# Altium integrated library TI Logic Boundary Scan.IntLib: 169 symbols (part 4 of 5)
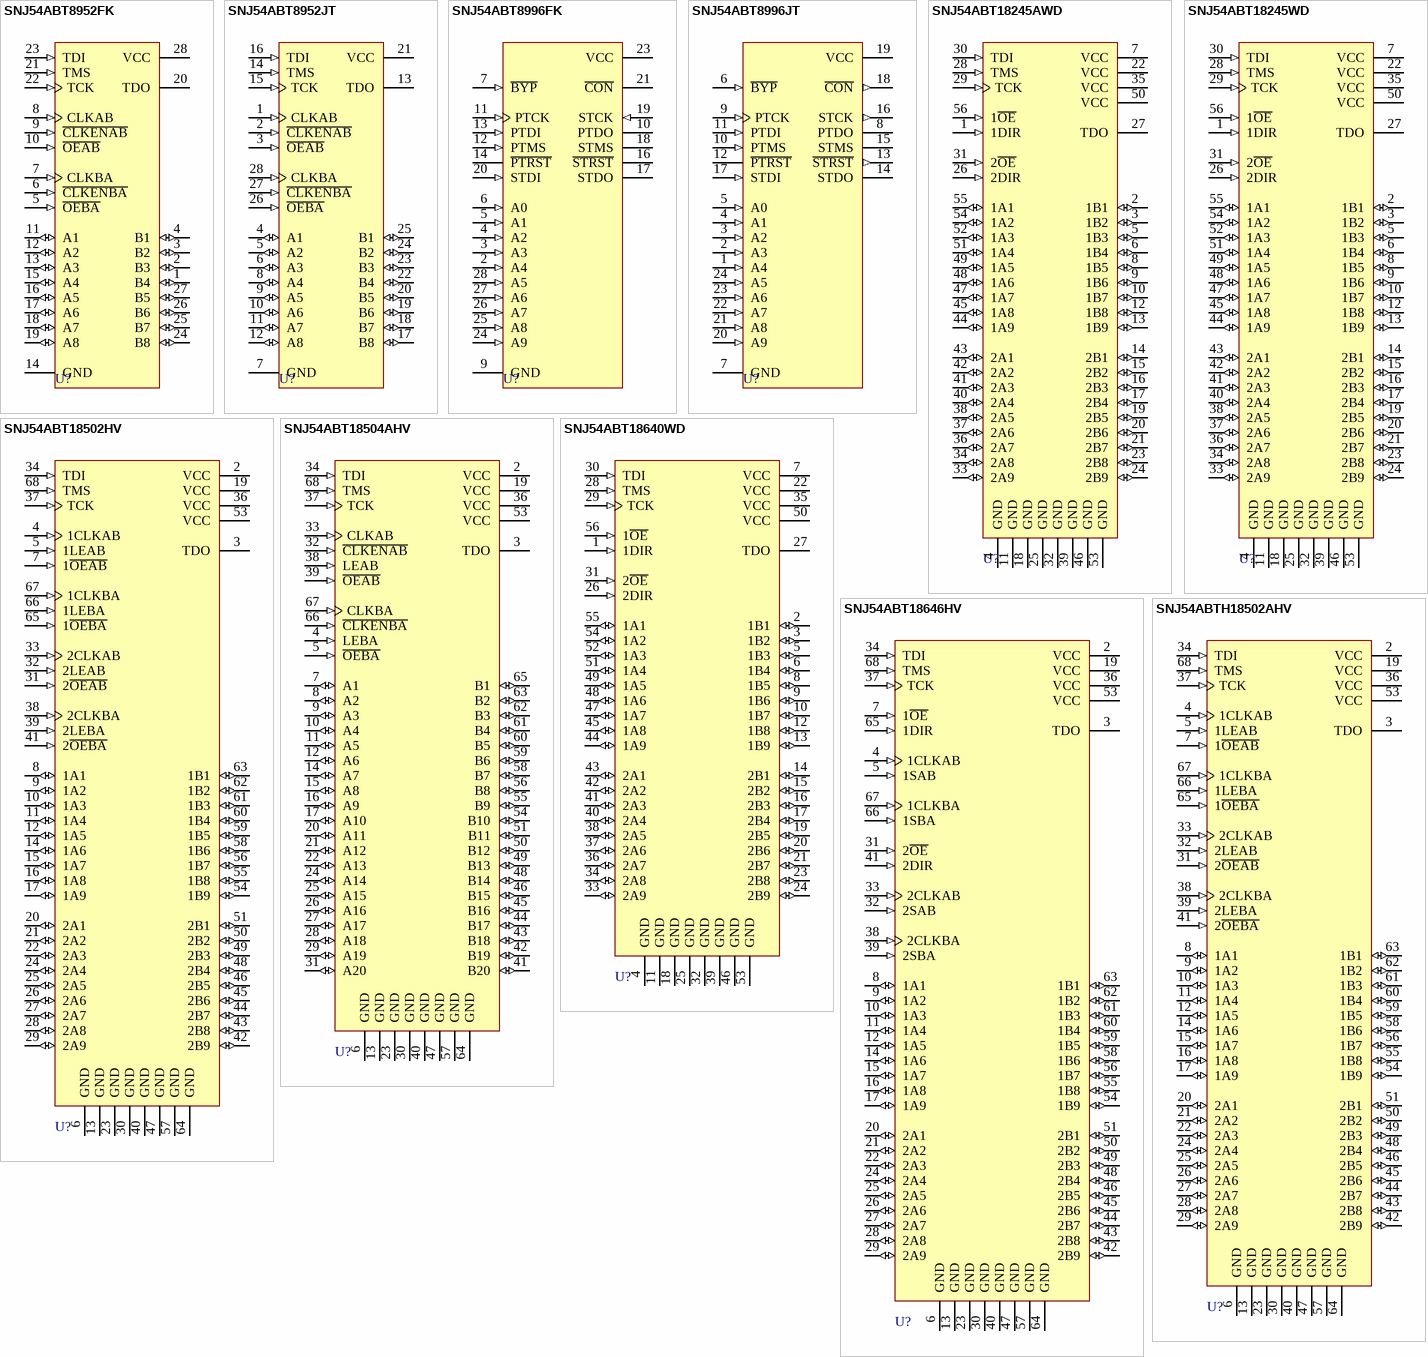
[diagram p15: symbols SNJ54ABT8952FK to SNJ54ABTH18502AHV]

## SNJ54ABT8952JT
designator U?
Scan Test Device with Octal Registered Bus Transceiver; Published: 8-Jun-2000; LatestRevisionDate: 06-Jun-2005; LatestRevisionNote: Stylized 3D Model Added.; DatasheetVersion: Jul-1996; PackageVersion: Jan-1997; PackageReference: JT028C; Publisher: Altium Limited; PackageDescription: DIP; 28 Leads; Row Spacing 7.62 mm; Pitch 2.54 mm; ComponentLink1Description: Manufacturer Link; ComponentLink1URL: http://www.ti.com/
footprint JT028C (DIP; 28 Leads; Row Spacing 7.62 mm; Pitch 2.54 mm)
3D model JT028 (DIP; 28 Leads; Row Spacing 7.62 mm; Pitch 2.54 mm)
signal-integrity model SNJ54ABT8952JT
pins: 1 CLKAB (in), 2 ~{CLKENAB} (in), 3 ~{OEAB} (in), 4 A1 (io), 5 A2 (io), 6 A3 (io), 7 GND (power), 8 A4 (io), 9 A5 (io), 10 A6 (io), 11 A7 (io), 12 A8 (io), 13 TDO (hiz), 14 TMS (in), 15 TCK (in), 16 TDI (in), 17 B8 (io), 18 B7 (io), 19 B6 (io), 20 B5 (io), 21 VCC (power), 22 B4 (io), 23 B3 (io), 24 B2 (io), 25 B1 (io), 26 ~{OEBA} (in), 27 ~{CLKENBA} (in), 28 CLKBA (in)

## SNJ54ABT8996FK
designator U?
10-Bit Addressable Scan Port Multidrop-Addressable IEEE Std 1149.1 (JTAG) Tap Transceiver; Note: Pins 1, 8, 15 and 22 - No connection and not drawn; Published: 8-Jun-2000; LatestRevisionDate: 17-Jul-2002; LatestRevisionNote: Re-released for DXP Platform.; DatasheetVersion: Apr-1999; PackageVersion: 1998; PackageReference: FK028; Publisher: Altium Limited; PackageDescription: Leadless Chip Carrier; 28 Terminals; Body 11.4 x 11.4 mm; ComponentLink1Description: Manufacturer Link; ComponentLink1URL: http://www.ti.com/; ComponentLink2Description: Datasheet; ComponentLink2URL: http://www-s.ti.com/sc/ds/sn74abt8996.pdf
footprint FK028 (Leadless Chip Carrier; 28 Terminals; Body 11.4 x 11.4 mm)
signal-integrity model SNJ54ABT8996FK
pins: 2 A4 (in), 3 A3 (in), 4 A2 (in), 5 A1 (in), 6 A0 (in), 7 ~{BYP} (in), 9 GND (power), 10 PTDO (hiz), 11 PTCK (in), 12 PTMS (in), 13 PTDI (in), 14 ~{PTRST} (hiz), 16 ~{STRST} (hiz), 17 STDO (hiz), 18 STMS (hiz), 19 STCK (in), 20 STDI (in), 21 ~{CON} (hiz), 23 VCC (power), 24 A9 (in), 25 A8 (in), 26 A7 (in), 27 A6 (in), 28 A5 (in)

## SNJ54ABT8996JT
designator U?
10-Bit Addressable Scan Port Multidrop-Addressable IEEE Std 1149.1 (JTAG) Tap Transceiver; Published: 8-Jun-2000; LatestRevisionDate: 06-Jun-2005; LatestRevisionNote: Stylized 3D Model Added.; DatasheetVersion: Apr-1999; PackageVersion: Jan-1997; PackageReference: JT024; Publisher: Altium Limited; PackageDescription: DIP; 24 Leads; Row Spacing 7.62 mm; Pitch 2.54 mm; Code_JEDEC: MS-001-AF; ComponentLink1Description: Manufacturer Link; ComponentLink1URL: http://www.ti.com/; ComponentLink2Description: Datasheet; ComponentLink2URL: http://www-s.ti.com/sc/ds/sn74abt8996.pdf
footprint JT024 (DIP; 24 Leads; Row Spacing 7.62 mm; Pitch 2.54 mm)
3D model JT024 (DIP; 24 Leads; Row Spacing 7.62 mm; Pitch 2.54 mm)
signal-integrity model SNJ54ABT8996JT
pins: 1 A4 (in), 2 A3 (in), 3 A2 (in), 4 A1 (in), 5 A0 (in), 6 ~{BYP} (in), 7 GND (power), 8 PTDO (hiz), 9 PTCK (in), 10 PTMS (in), 11 PTDI (in), 12 ~{PTRST} (hiz), 13 ~{STRST} (out), 14 STDO (hiz), 15 STMS (hiz), 16 STCK (out), 17 STDI (in), 18 ~{CON} (out), 19 VCC (power), 20 A9 (in), 21 A8 (in), 22 A7 (in), 23 A6 (in), 24 A5 (in)

## SNJ54ABT18245AWD
designator U?
Scan Test Device with 18-Bit Bus Transceiver; Published: 8-Jun-2000; LatestRevisionDate: 06-Jun-2005; LatestRevisionNote: Stylized 3D Model Added.; DatasheetVersion: Feb-1999; PackageVersion: Jan-1998; PackageReference: WD056; Publisher: Altium Limited; PackageDescription: DFP; 56 Leads; Body 18.8 x 9.9 mm (LxW max); Pitch 0.635 mm; Code_JEDEC: MO-146-AB; ComponentLink1Description: Manufacturer Link; ComponentLink1URL: http://www.ti.com/; ComponentLink2Description: Datasheet; ComponentLink2URL: http://www-s.ti.com/sc/ds/sn74abt18245a.pdf
footprint WD056 (DFP; 56 Leads; Body 18.8 x 9.9 mm (LxW max); Pitch 0.635 mm)
3D model WD056 (DFP; 56 Leads; Body 18.8 x 9.9 mm (LxW max); Pitch 0.635 mm)
signal-integrity model SNJ54ABT18245AWD
pins: 1 1DIR (in), 2 1B1 (io), 3 1B2 (io), 4 GND (power), 5 1B3 (io), 6 1B4 (io), 7 VCC (power), 8 1B5 (io), 9 1B6 (io), 10 1B7 (io), 11 GND (power), 12 1B8 (io), 13 1B9 (io), 14 2B1 (io), 15 2B2 (io), 16 2B3 (io), 17 2B4 (io), 18 GND (power), 19 2B5 (io), 20 2B6 (io), 21 2B7 (io), 22 VCC (power), 23 2B8 (io), 24 2B9 (io), 25 GND (power), 26 2DIR (in), 27 TDO (hiz), 28 TMS (in), 29 TCK (in), 30 TDI (in), 31 2~{OE} (in), 32 GND (power), 33 2A9 (io), 34 2A8 (io), 35 VCC (power), 36 2A7 (io), 37 2A6 (io), 38 2A5 (io), 39 GND (power), 40 2A4 (io), 41 2A3 (io), 42 2A2 (io), 43 2A1 (io), 44 1A9 (io), 45 1A8 (io), 46 GND (power), 47 1A7 (io), 48 1A6 (io), 49 1A5 (io), 50 VCC (power), 51 1A4 (io), 52 1A3 (io), 53 GND (power), 54 1A2 (io), 55 1A1 (io), 56 1~{OE} (in)

## SNJ54ABT18245WD
designator U?
Scan Test Device with 18-Bit Bus Transceiver; Published: 8-Jun-2000; LatestRevisionDate: 06-Jun-2005; LatestRevisionNote: Stylized 3D Model Added.; DatasheetVersion: Jan-1995; PackageVersion: Jan-1998; PackageReference: WD056; Publisher: Altium Limited; PackageDescription: DFP; 56 Leads; Body 18.8 x 9.9 mm (LxW max); Pitch 0.635 mm; Code_JEDEC: MO-146-AB; ComponentLink1Description: Manufacturer Link; ComponentLink1URL: http://www.ti.com/
footprint WD056 (DFP; 56 Leads; Body 18.8 x 9.9 mm (LxW max); Pitch 0.635 mm)
3D model WD056 (DFP; 56 Leads; Body 18.8 x 9.9 mm (LxW max); Pitch 0.635 mm)
signal-integrity model SNJ54ABT18245WD
pins: 1 1DIR (in), 2 1B1 (io), 3 1B2 (io), 4 GND (power), 5 1B3 (io), 6 1B4 (io), 7 VCC (power), 8 1B5 (io), 9 1B6 (io), 10 1B7 (io), 11 GND (power), 12 1B8 (io), 13 1B9 (io), 14 2B1 (io), 15 2B2 (io), 16 2B3 (io), 17 2B4 (io), 18 GND (power), 19 2B5 (io), 20 2B6 (io), 21 2B7 (io), 22 VCC (power), 23 2B8 (io), 24 2B9 (io), 25 GND (power), 26 2DIR (in), 27 TDO (hiz), 28 TMS (in), 29 TCK (in), 30 TDI (in), 31 2~{OE} (in), 32 GND (power), 33 2A9 (io), 34 2A8 (io), 35 VCC (power), 36 2A7 (io), 37 2A6 (io), 38 2A5 (io), 39 GND (power), 40 2A4 (io), 41 2A3 (io), 42 2A2 (io), 43 2A1 (io), 44 1A9 (io), 45 1A8 (io), 46 GND (power), 47 1A7 (io), 48 1A6 (io), 49 1A5 (io), 50 VCC (power), 51 1A4 (io), 52 1A3 (io), 53 GND (power), 54 1A2 (io), 55 1A1 (io), 56 1~{OE} (in)

## SNJ54ABT18502HV
designator U?
Scan Test Device with 18-Bit Registered Bus Transceiver; Note: Pins 1, 18, 35 and 52 - No Connection and not drawn; Published: 8-Jun-2000; LatestRevisionDate: 13-Apr-2006; LatestRevisionNote: IPC-7351 Footprint Added.; DatasheetVersion: Aug-1994; PackageVersion: Oct-1996; PackageReference: HV068; Publisher: Altium Limited; PackageDescription: 68-Pin Ceramic Quad Flat Pack 0.635 mm Pitch; ComponentLink1Description: Manufacturer Link; ComponentLink1URL: http://www.ti.com/
footprint HV068_N (CQFP, 68-Leads, Body 12.5x12.5mm; Pitch 0.635mm, Gullwing Leadform, IPC Medium Density)
footprint HV068_L (CQFP, 68-Leads, Body 12.5x12.5mm; Pitch 0.635mm, Gullwing Leadform, IPC High Density)
footprint HV068_M (CQFP, 68-Leads, Body 12.5x12.5mm; Pitch 0.635mm, Gullwing Leadform, IPC Low Density)
3D model SNJ54ABT18502-HV068 (68-Pin Ceramic Quad Flat Pack 0.635 mm Pitch)
signal-integrity model SNJ54ABT18502HV
pins: 2 VCC (power), 3 TDO (hiz), 4 1CLKAB (in), 5 1LEAB (in), 6 GND (power), 7 1~{OEAB} (in), 8 1A1 (io), 9 1A2 (io), 10 1A3 (io), 11 1A4 (io), 12 1A5 (io), 13 GND (power), 14 1A6 (io), 15 1A7 (io), 16 1A8 (io), 17 1A9 (io), 19 VCC (power), 20 2A1 (io), 21 2A2 (io), 22 2A3 (io), 23 GND (power), 24 2A4 (io), 25 2A5 (io), 26 2A6 (io), 27 2A7 (io), 28 2A8 (io), 29 2A9 (io), 30 GND (power), 31 2~{OEAB} (in), 32 2LEAB (in), 33 2CLKAB (in), 34 TDI (in), 36 VCC (power), 37 TCK (in), 38 2CLKBA (in), 39 2LEBA (in), 40 GND (power), 41 2~{OEBA} (in), 42 2B9 (io), 43 2B8 (io), 44 2B7 (io), 45 2B6 (io), 46 2B5 (io), 47 GND (power), 48 2B4 (io), 49 2B3 (io), 50 2B2 (io), 51 2B1 (io), 53 VCC (power), 54 1B9 (io), 55 1B8 (io), 56 1B7 (io), 57 GND (power), 58 1B6 (io), 59 1B5 (io), 60 1B4 (io), 61 1B3 (io), 62 1B2 (io), 63 1B1 (io), 64 GND (power), 65 1~{OEBA} (in), 66 1LEBA (in), 67 1CLKBA (in), 68 TMS (in)

## SNJ54ABT18504AHV
designator U?
Scan Test Device with 20-Bit Universal Bus Transceiver; Note: Pins 1, 18, 35 and 52 - No Connection and not drawn; Published: 8-Jun-2000; LatestRevisionDate: 13-Apr-2006; LatestRevisionNote: IPC-7351 Footprint Added.; DatasheetVersion: Aug-1993; PackageVersion: Oct-1996; PackageReference: HV068C; Publisher: Altium Limited; PackageDescription: 68-Pin Ceramic Quad Flat Pack 0.635 mm Pitch; ComponentLink1Description: Manufacturer Link; ComponentLink1URL: http://www.ti.com/
footprint HV068C_N (CQFP, 68-Leads, Body 12.5x12.5mm; Pitch 0.635mm, Gullwing Leadform, IPC Medium Density)
footprint HV068C_L (CQFP, 68-Leads, Body 12.5x12.5mm; Pitch 0.635mm, Gullwing Leadform, IPC High Density)
footprint HV068C_M (CQFP, 68-Leads, Body 12.5x12.5mm; Pitch 0.635mm, Gullwing Leadform, IPC Low Density)
3D model SNJ54ABT18504A-HV068 (68-Pin Ceramic Quad Flat Pack 0.635 mm Pitch)
signal-integrity model SNJ54ABT18504AHV
pins: 2 VCC (power), 3 TDO (hiz), 4 LEBA (in), 5 ~{OEBA} (in), 6 GND (power), 7 A1 (io), 8 A2 (io), 9 A3 (io), 10 A4 (io), 11 A5 (io), 12 A6 (io), 13 GND (power), 14 A7 (io), 15 A8 (io), 16 A9 (io), 17 A10 (io), 19 VCC (power), 20 A11 (io), 21 A12 (io), 22 A13 (io), 23 GND (power), 24 A14 (io), 25 A15 (io), 26 A16 (io), 27 A17 (io), 28 A18 (io), 29 A19 (io), 30 GND (power), 31 A20 (io), 32 ~{CLKENAB} (in), 33 CLKAB (in), 34 TDI (in), 36 VCC (power), 37 TCK (in), 38 LEAB (in), 39 ~{OEAB} (in), 40 GND (power), 41 B20 (io), 42 B19 (io), 43 B18 (io), 44 B17 (io), 45 B16 (io), 46 B15 (io), 47 GND (power), 48 B14 (io), 49 B13 (io), 50 B12 (io), 51 B11 (io), 53 VCC (power), 54 B10 (io), 55 B9 (io), 56 B8 (io), 57 GND (power), 58 B7 (io), 59 B6 (io), 60 B5 (io), 61 B4 (io), 62 B3 (io), 63 B2 (io), 64 GND (power), 65 B1 (io), 66 ~{CLKENBA} (in), 67 CLKBA (in), 68 TMS (in)

## SNJ54ABT18640WD
designator U?
Scan Test Device with 18-Bit Inverting Bus Transceiver; Published: 8-Jun-2000; LatestRevisionDate: 06-Jun-2005; LatestRevisionNote: Stylized 3D Model Added.; DatasheetVersion: Jul-1996; PackageVersion: Jan-1998; PackageReference: WD056; Publisher: Altium Limited; PackageDescription: DFP; 56 Leads; Body 18.8 x 9.9 mm (LxW max); Pitch 0.635 mm; Code_JEDEC: MO-146-AB; ComponentLink1Description: Manufacturer Link; ComponentLink1URL: http://www.ti.com/
footprint WD056 (DFP; 56 Leads; Body 18.8 x 9.9 mm (LxW max); Pitch 0.635 mm)
3D model WD056 (DFP; 56 Leads; Body 18.8 x 9.9 mm (LxW max); Pitch 0.635 mm)
signal-integrity model SNJ54ABT18640WD
pins: 1 1DIR (in), 2 1B1 (io), 3 1B2 (io), 4 GND (power), 5 1B3 (io), 6 1B4 (io), 7 VCC (power), 8 1B5 (io), 9 1B6 (io), 10 1B7 (io), 11 GND (power), 12 1B8 (io), 13 1B9 (io), 14 2B1 (io), 15 2B2 (io), 16 2B3 (io), 17 2B4 (io), 18 GND (power), 19 2B5 (io), 20 2B6 (io), 21 2B7 (io), 22 VCC (power), 23 2B8 (io), 24 2B9 (io), 25 GND (power), 26 2DIR (in), 27 TDO (hiz), 28 TMS (in), 29 TCK (in), 30 TDI (in), 31 2~{OE} (in), 32 GND (power), 33 2A9 (io), 34 2A8 (io), 35 VCC (power), 36 2A7 (io), 37 2A6 (io), 38 2A5 (io), 39 GND (power), 40 2A4 (io), 41 2A3 (io), 42 2A2 (io), 43 2A1 (io), 44 1A9 (io), 45 1A8 (io), 46 GND (power), 47 1A7 (io), 48 1A6 (io), 49 1A5 (io), 50 VCC (power), 51 1A4 (io), 52 1A3 (io), 53 GND (power), 54 1A2 (io), 55 1A1 (io), 56 1~{OE} (in)

## SNJ54ABT18646HV
designator U?
Scan Test Device with 18-Bit Transceivers and Registers; Note: Pins 1, 18, 35 and 52 - No Connection and not drawn; Published: 8-Jun-2000; LatestRevisionDate: 13-Apr-2006; LatestRevisionNote: IPC-7351 Footprint Added.; DatasheetVersion: Aug-1994; PackageVersion: Oct-1996; PackageReference: HV068; Publisher: Altium Limited; PackageDescription: 68-Pin Ceramic Quad Flat Pack 0.635 mm Pitch; ComponentLink1Description: Manufacturer Link; ComponentLink1URL: http://www.ti.com/
footprint HV068_N (CQFP, 68-Leads, Body 12.5x12.5mm; Pitch 0.635mm, Gullwing Leadform, IPC Medium Density)
footprint HV068_L (CQFP, 68-Leads, Body 12.5x12.5mm; Pitch 0.635mm, Gullwing Leadform, IPC High Density)
footprint HV068_M (CQFP, 68-Leads, Body 12.5x12.5mm; Pitch 0.635mm, Gullwing Leadform, IPC Low Density)
3D model SNJ54ABT18646-HV068 (68-Pin Ceramic Quad Flat Pack 0.635 mm Pitch)
signal-integrity model SNJ54ABT18646HV
pins: 2 VCC (power), 3 TDO (hiz), 4 1CLKAB (in), 5 1SAB (in), 6 GND (power), 7 1~{OE} (in), 8 1A1 (io), 9 1A2 (io), 10 1A3 (io), 11 1A4 (io), 12 1A5 (io), 13 GND (power), 14 1A6 (io), 15 1A7 (io), 16 1A8 (io), 17 1A9 (io), 19 VCC (power), 20 2A1 (io), 21 2A2 (io), 22 2A3 (io), 23 GND (power), 24 2A4 (io), 25 2A5 (io), 26 2A6 (io), 27 2A7 (io), 28 2A8 (io), 29 2A9 (io), 30 GND (power), 31 2~{OE} (in), 32 2SAB (in), 33 2CLKAB (in), 34 TDI (in), 36 VCC (power), 37 TCK (in), 38 2CLKBA (in), 39 2SBA (in), 40 GND (power), 41 2DIR (in), 42 2B9 (io), 43 2B8 (io), 44 2B7 (io), 45 2B6 (io), 46 2B5 (io), 47 GND (power), 48 2B4 (io), 49 2B3 (io), 50 2B2 (io), 51 2B1 (io), 53 VCC (power), 54 1B9 (io), 55 1B8 (io), 56 1B7 (io), 57 GND (power), 58 1B6 (io), 59 1B5 (io), 60 1B4 (io), 61 1B3 (io), 62 1B2 (io), 63 1B1 (io), 64 GND (power), 65 1DIR (in), 66 1SBA (in), 67 1CLKBA (in), 68 TMS (in)

## SNJ54ABTH18502AHV
designator U?
Scan Test Device with 18-Bit Universal Bus Transceivers; Note: Pin(s) 1,18,35,52 "No Connection" and not drawn.; Published: 8-Jun-2000; LatestRevisionDate: 13-Apr-2006; LatestRevisionNote: IPC-7351 Footprint Added.; DatasheetVersion: Dec-1996; PackageVersion: Oct-1996; PackageReference: HV068; Publisher: Altium Limited; PackageDescription: 68-Pin Ceramic Quad Flat Pack 0.635 mm Pitch; ComponentLink1Description: Manufacturer Link; ComponentLink1URL: http://www.ti.com/; ComponentLink2Description: Datasheet; ComponentLink2URL: http://www-s.ti.com/sc/ds/sn74abth18502a.pdf
footprint HV068_N (CQFP, 68-Leads, Body 12.5x12.5mm; Pitch 0.635mm, Gullwing Leadform, IPC Medium Density)
footprint HV068_L (CQFP, 68-Leads, Body 12.5x12.5mm; Pitch 0.635mm, Gullwing Leadform, IPC High Density)
footprint HV068_M (CQFP, 68-Leads, Body 12.5x12.5mm; Pitch 0.635mm, Gullwing Leadform, IPC Low Density)
3D model SNJ54ABTH18502A-HV068 (68-Pin Ceramic Quad Flat Pack 0.635 mm Pitch)
pins: 2 VCC (power), 3 TDO (hiz), 4 1CLKAB (in), 5 1LEAB (in), 6 GND (power), 7 1~{OEAB} (in), 8 1A1 (io), 9 1A2 (io), 10 1A3 (io), 11 1A4 (io), 12 1A5 (io), 13 GND (power), 14 1A6 (io), 15 1A7 (io), 16 1A8 (io), 17 1A9 (io), 19 VCC (power), 20 2A1 (io), 21 2A2 (io), 22 2A3 (io), 23 GND (power), 24 2A4 (io), 25 2A5 (io), 26 2A6 (io), 27 2A7 (io), 28 2A8 (io), 29 2A9 (io), 30 GND (power), 31 2~{OEAB} (in), 32 2LEAB (in), 33 2CLKAB (in), 34 TDI (in), 36 VCC (power), 37 TCK (in), 38 2CLKBA (in), 39 2LEBA (in), 40 GND (power), 41 2~{OEBA} (in), 42 2B9 (io), 43 2B8 (io), 44 2B7 (io), 45 2B6 (io), 46 2B5 (io), 47 GND (power), 48 2B4 (io), 49 2B3 (io), 50 2B2 (io), 51 2B1 (io), 53 VCC (power), 54 1B9 (io), 55 1B8 (io), 56 1B7 (io), 57 GND (power), 58 1B6 (io), 59 1B5 (io), 60 1B4 (io), 61 1B3 (io), 62 1B2 (io), 63 1B1 (io), 64 GND (power), 65 1~{OEBA} (in), 66 1LEBA (in), 67 1CLKBA (in), 68 TMS (in)

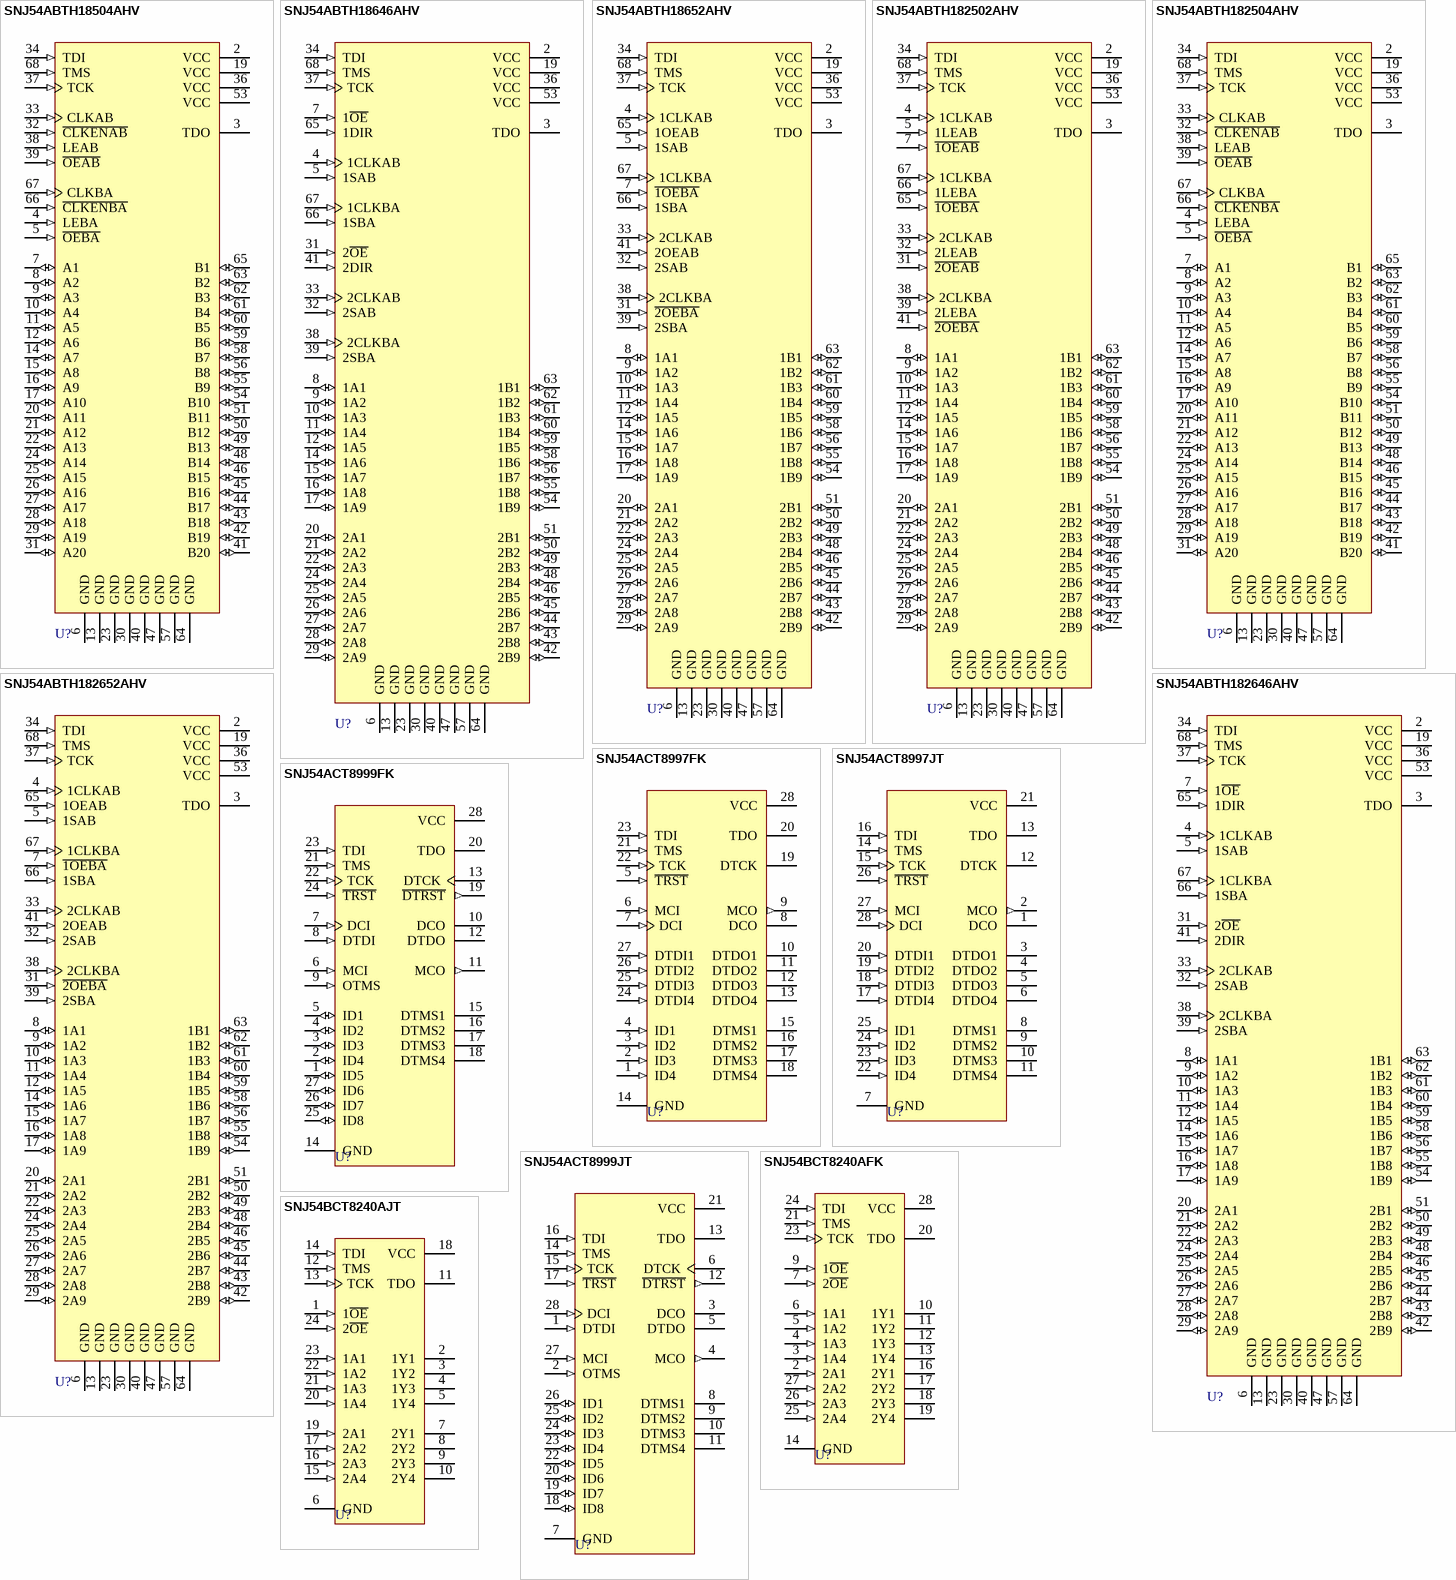
[diagram p8: symbols SNJ54ABTH18504AHV to SNJ54BCT8240AJT]

## SNJ54ABTH18504AHV
designator U?
Scan Test Device with 20-Bit Universal Bus Transceiver; Note: Pins 1, 18, 35 and 52 - No Connection and not drawn; Published: 8-Jun-2000; LatestRevisionDate: 13-Apr-2006; LatestRevisionNote: IPC-7351 Footprint Added.; DatasheetVersion: Aug-1994; PackageVersion: Oct-1996; PackageReference: HV068C; Publisher: Altium Limited; PackageDescription: 68-Pin Ceramic Quad Flat Pack 0.635 mm Pitch; ComponentLink1Description: Manufacturer Link; ComponentLink1URL: http://www.ti.com/
footprint HV068C_N (CQFP, 68-Leads, Body 12.5x12.5mm; Pitch 0.635mm, Gullwing Leadform, IPC Medium Density)
footprint HV068C_L (CQFP, 68-Leads, Body 12.5x12.5mm; Pitch 0.635mm, Gullwing Leadform, IPC High Density)
footprint HV068C_M (CQFP, 68-Leads, Body 12.5x12.5mm; Pitch 0.635mm, Gullwing Leadform, IPC Low Density)
3D model SNJ54ABTH18504A-HV068 (68-Pin Ceramic Quad Flat Pack 0.635 mm Pitch)
pins: 2 VCC (power), 3 TDO (hiz), 4 LEBA (in), 5 ~{OEBA} (in), 6 GND (power), 7 A1 (io), 8 A2 (io), 9 A3 (io), 10 A4 (io), 11 A5 (io), 12 A6 (io), 13 GND (power), 14 A7 (io), 15 A8 (io), 16 A9 (io), 17 A10 (io), 19 VCC (power), 20 A11 (io), 21 A12 (io), 22 A13 (io), 23 GND (power), 24 A14 (io), 25 A15 (io), 26 A16 (io), 27 A17 (io), 28 A18 (io), 29 A19 (io), 30 GND (power), 31 A20 (io), 32 ~{CLKENAB} (in), 33 CLKAB (in), 34 TDI (in), 36 VCC (power), 37 TCK (in), 38 LEAB (in), 39 ~{OEAB} (in), 40 GND (power), 41 B20 (io), 42 B19 (io), 43 B18 (io), 44 B17 (io), 45 B16 (io), 46 B15 (io), 47 GND (power), 48 B14 (io), 49 B13 (io), 50 B12 (io), 51 B11 (io), 53 VCC (power), 54 B10 (io), 55 B9 (io), 56 B8 (io), 57 GND (power), 58 B7 (io), 59 B6 (io), 60 B5 (io), 61 B4 (io), 62 B3 (io), 63 B2 (io), 64 GND (power), 65 B1 (io), 66 ~{CLKENBA} (in), 67 CLKBA (in), 68 TMS (in)

## SNJ54ABTH18646AHV
designator U?
Scan Test Device with 18-Bit Transceivers And Registers; Note: Pins 1, 18, 35 and 52 - No Connection and not drawn; Published: 8-Jun-2000; LatestRevisionDate: 13-Apr-2006; LatestRevisionNote: IPC-7351 Footprint Added.; DatasheetVersion: Jul-1996; PackageVersion: Oct-1996; PackageReference: HV068; Publisher: Altium Limited; PackageDescription: 68-Pin Ceramic Quad Flat Pack 0.635 mm Pitch; ComponentLink1Description: Manufacturer Link; ComponentLink1URL: http://www.ti.com/; ComponentLink2Description: Datasheet; ComponentLink2URL: http://www-s.ti.com/sc/ds/sn74abth18646a.pdf
footprint HV068_N (CQFP, 68-Leads, Body 12.5x12.5mm; Pitch 0.635mm, Gullwing Leadform, IPC Medium Density)
footprint HV068_L (CQFP, 68-Leads, Body 12.5x12.5mm; Pitch 0.635mm, Gullwing Leadform, IPC High Density)
footprint HV068_M (CQFP, 68-Leads, Body 12.5x12.5mm; Pitch 0.635mm, Gullwing Leadform, IPC Low Density)
3D model SNJ54ABTH18646A-HV068 (68-Pin Ceramic Quad Flat Pack 0.635 mm Pitch)
pins: 2 VCC (power), 3 TDO (hiz), 4 1CLKAB (in), 5 1SAB (in), 6 GND (power), 7 1~{OE} (in), 8 1A1 (io), 9 1A2 (io), 10 1A3 (io), 11 1A4 (io), 12 1A5 (io), 13 GND (power), 14 1A6 (io), 15 1A7 (io), 16 1A8 (io), 17 1A9 (io), 19 VCC (power), 20 2A1 (io), 21 2A2 (io), 22 2A3 (io), 23 GND (power), 24 2A4 (io), 25 2A5 (io), 26 2A6 (io), 27 2A7 (io), 28 2A8 (io), 29 2A9 (io), 30 GND (power), 31 2~{OE} (in), 32 2SAB (in), 33 2CLKAB (in), 34 TDI (in), 36 VCC (power), 37 TCK (in), 38 2CLKBA (in), 39 2SBA (in), 40 GND (power), 41 2DIR (in), 42 2B9 (io), 43 2B8 (io), 44 2B7 (io), 45 2B6 (io), 46 2B5 (io), 47 GND (power), 48 2B4 (io), 49 2B3 (io), 50 2B2 (io), 51 2B1 (io), 53 VCC (power), 54 1B9 (io), 55 1B8 (io), 56 1B7 (io), 57 GND (power), 58 1B6 (io), 59 1B5 (io), 60 1B4 (io), 61 1B3 (io), 62 1B2 (io), 63 1B1 (io), 64 GND (power), 65 1DIR (in), 66 1SBA (in), 67 1CLKBA (in), 68 TMS (in)

## SNJ54ABTH18652AHV
designator U?
Scan Test Device with 18-Bit Bus Transceiver and Register; Note: Pins 1, 18, 35 and 52 - No Connection and not drawn; Published: 8-Jun-2000; LatestRevisionDate: 13-Apr-2006; LatestRevisionNote: IPC-7351 Footprint Added.; DatasheetVersion: Jul-1996; PackageVersion: Oct-1996; PackageReference: HV068C; Publisher: Altium Limited; PackageDescription: 68-Pin Ceramic Quad Flat Pack 0.635 mm Pitch; ComponentLink1Description: Manufacturer Link; ComponentLink1URL: http://www.ti.com/
footprint HV068C_N (CQFP, 68-Leads, Body 12.5x12.5mm; Pitch 0.635mm, Gullwing Leadform, IPC Medium Density)
footprint HV068C_L (CQFP, 68-Leads, Body 12.5x12.5mm; Pitch 0.635mm, Gullwing Leadform, IPC High Density)
footprint HV068C_M (CQFP, 68-Leads, Body 12.5x12.5mm; Pitch 0.635mm, Gullwing Leadform, IPC Low Density)
3D model SNJ54ABTH18652A-HV068 (68-Pin Ceramic Quad Flat Pack 0.635 mm Pitch)
pins: 2 VCC (power), 3 TDO (hiz), 4 1CLKAB (in), 5 1SAB (in), 6 GND (power), 7 ~{1OEBA} (in), 8 1A1 (io), 9 1A2 (io), 10 1A3 (io), 11 1A4 (io), 12 1A5 (io), 13 GND (power), 14 1A6 (io), 15 1A7 (io), 16 1A8 (io), 17 1A9 (io), 19 VCC (power), 20 2A1 (io), 21 2A2 (io), 22 2A3 (io), 23 GND (power), 24 2A4 (io), 25 2A5 (io), 26 2A6 (io), 27 2A7 (io), 28 2A8 (io), 29 2A9 (io), 30 GND (power), 31 ~{2OEBA} (in), 32 2SAB (in), 33 2CLKAB (in), 34 TDI (in), 36 VCC (power), 37 TCK (in), 38 2CLKBA (in), 39 2SBA (in), 40 GND (power), 41 2OEAB (in), 42 2B9 (io), 43 2B8 (io), 44 2B7 (io), 45 2B6 (io), 46 2B5 (io), 47 GND (power), 48 2B4 (io), 49 2B3 (io), 50 2B2 (io), 51 2B1 (io), 53 VCC (power), 54 1B9 (io), 55 1B8 (io), 56 1B7 (io), 57 GND (power), 58 1B6 (io), 59 1B5 (io), 60 1B4 (io), 61 1B3 (io), 62 1B2 (io), 63 1B1 (io), 64 GND (power), 65 1OEAB (in), 66 1SBA (in), 67 1CLKBA (in), 68 TMS (in)

## SNJ54ABTH182502AHV
designator U?
Scan Test Device with 18-Bit Universal Bus Transceiver; Note: Pins 1, 18, 35 and 52 - No Connection and not drawn; Published: 8-Jun-2000; LatestRevisionDate: 13-Apr-2006; LatestRevisionNote: IPC-7351 Footprint Added.; DatasheetVersion: Aug-1994; PackageVersion: Oct-1996; PackageReference: HV068C; Publisher: Altium Limited; PackageDescription: 68-Pin Ceramic Quad Flat Pack 0.635 mm Pitch; ComponentLink1Description: Manufacturer Link; ComponentLink1URL: http://www.ti.com/
footprint HV068C_N (CQFP, 68-Leads, Body 12.5x12.5mm; Pitch 0.635mm, Gullwing Leadform, IPC Medium Density)
footprint HV068C_L (CQFP, 68-Leads, Body 12.5x12.5mm; Pitch 0.635mm, Gullwing Leadform, IPC High Density)
footprint HV068C_M (CQFP, 68-Leads, Body 12.5x12.5mm; Pitch 0.635mm, Gullwing Leadform, IPC Low Density)
3D model SNJ54ABTH182502A-HV068 (68-Pin Ceramic Quad Flat Pack 0.635 mm Pitch)
pins: 2 VCC (power), 3 TDO (hiz), 4 1CLKAB (in), 5 1LEAB (in), 6 GND (power), 7 ~{1OEAB} (in), 8 1A1 (io), 9 1A2 (io), 10 1A3 (io), 11 1A4 (io), 12 1A5 (io), 13 GND (power), 14 1A6 (io), 15 1A7 (io), 16 1A8 (io), 17 1A9 (io), 19 VCC (power), 20 2A1 (io), 21 2A2 (io), 22 2A3 (io), 23 GND (power), 24 2A4 (io), 25 2A5 (io), 26 2A6 (io), 27 2A7 (io), 28 2A8 (io), 29 2A9 (io), 30 GND (power), 31 ~{2OEAB} (in), 32 2LEAB (in), 33 2CLKAB (in), 34 TDI (in), 36 VCC (power), 37 TCK (in), 38 2CLKBA (in), 39 2LEBA (in), 40 GND (power), 41 ~{2OEBA} (in), 42 2B9 (io), 43 2B8 (io), 44 2B7 (io), 45 2B6 (io), 46 2B5 (io), 47 GND (power), 48 2B4 (io), 49 2B3 (io), 50 2B2 (io), 51 2B1 (io), 53 VCC (power), 54 1B9 (io), 55 1B8 (io), 56 1B7 (io), 57 GND (power), 58 1B6 (io), 59 1B5 (io), 60 1B4 (io), 61 1B3 (io), 62 1B2 (io), 63 1B1 (io), 64 GND (power), 65 ~{1OEBA} (in), 66 1LEBA (in), 67 1CLKBA (in), 68 TMS (in)

## SNJ54ABTH182504AHV
designator U?
Scan Test Device with 20-Bit Universal Bus Transceiver; Note: Pins 1, 18, 35 and 52 - No Connection and not drawn; Published: 8-Jun-2000; LatestRevisionDate: 13-Apr-2006; LatestRevisionNote: IPC-7351 Footprint Added.; DatasheetVersion: Aug-1994; PackageVersion: Oct-1996; PackageReference: HV068C; Publisher: Altium Limited; PackageDescription: 68-Pin Ceramic Quad Flat Pack 0.635 mm Pitch; ComponentLink1Description: Manufacturer Link; ComponentLink1URL: http://www.ti.com/
footprint HV068C_N (CQFP, 68-Leads, Body 12.5x12.5mm; Pitch 0.635mm, Gullwing Leadform, IPC Medium Density)
footprint HV068C_L (CQFP, 68-Leads, Body 12.5x12.5mm; Pitch 0.635mm, Gullwing Leadform, IPC High Density)
footprint HV068C_M (CQFP, 68-Leads, Body 12.5x12.5mm; Pitch 0.635mm, Gullwing Leadform, IPC Low Density)
3D model SNJ54ABTH182504A-HV068 (68-Pin Ceramic Quad Flat Pack 0.635 mm Pitch)
pins: 2 VCC (power), 3 TDO (hiz), 4 LEBA (in), 5 ~{OEBA} (in), 6 GND (power), 7 A1 (io), 8 A2 (io), 9 A3 (io), 10 A4 (io), 11 A5 (io), 12 A6 (io), 13 GND (power), 14 A7 (io), 15 A8 (io), 16 A9 (io), 17 A10 (io), 19 VCC (power), 20 A11 (io), 21 A12 (io), 22 A13 (io), 23 GND (power), 24 A14 (io), 25 A15 (io), 26 A16 (io), 27 A17 (io), 28 A18 (io), 29 A19 (io), 30 GND (power), 31 A20 (io), 32 ~{CLKENAB} (in), 33 CLKAB (in), 34 TDI (in), 36 VCC (power), 37 TCK (in), 38 LEAB (in), 39 ~{OEAB} (in), 40 GND (power), 41 B20 (io), 42 B19 (io), 43 B18 (io), 44 B17 (io), 45 B16 (io), 46 B15 (io), 47 GND (power), 48 B14 (io), 49 B13 (io), 50 B12 (io), 51 B11 (io), 53 VCC (power), 54 B10 (io), 55 B9 (io), 56 B8 (io), 57 GND (power), 58 B7 (io), 59 B6 (io), 60 B5 (io), 61 B4 (io), 62 B3 (io), 63 B2 (io), 64 GND (power), 65 B1 (io), 66 ~{CLKENBA} (in), 67 CLKBA (in), 68 TMS (in)

## SNJ54ABTH182646AHV
designator U?
Scan Test Device with 18-Bit Transceiver and Register; Note: Pins 1, 18, 35 and 52 - No Connection and not drawn; Published: 8-Jun-2000; LatestRevisionDate: 13-Apr-2006; LatestRevisionNote: IPC-7351 Footprint Added.; DatasheetVersion: Jul-1996; PackageVersion: Oct-1996; PackageReference: HV068C; Publisher: Altium Limited; PackageDescription: 68-Pin Ceramic Quad Flat Pack 0.635 mm Pitch; ComponentLink1Description: Manufacturer Link; ComponentLink1URL: http://www.ti.com/
footprint HV068C_N (CQFP, 68-Leads, Body 12.5x12.5mm; Pitch 0.635mm, Gullwing Leadform, IPC Medium Density)
footprint HV068C_L (CQFP, 68-Leads, Body 12.5x12.5mm; Pitch 0.635mm, Gullwing Leadform, IPC High Density)
footprint HV068C_M (CQFP, 68-Leads, Body 12.5x12.5mm; Pitch 0.635mm, Gullwing Leadform, IPC Low Density)
3D model SNJ54ABTH182646A-HV068 (68-Pin Ceramic Quad Flat Pack 0.635 mm Pitch)
pins: 2 VCC (power), 3 TDO (hiz), 4 1CLKAB (in), 5 1SAB (in), 6 GND (power), 7 1~{OE} (in), 8 1A1 (io), 9 1A2 (io), 10 1A3 (io), 11 1A4 (io), 12 1A5 (io), 13 GND (power), 14 1A6 (io), 15 1A7 (io), 16 1A8 (io), 17 1A9 (io), 19 VCC (power), 20 2A1 (io), 21 2A2 (io), 22 2A3 (io), 23 GND (power), 24 2A4 (io), 25 2A5 (io), 26 2A6 (io), 27 2A7 (io), 28 2A8 (io), 29 2A9 (io), 30 GND (power), 31 2~{OE} (in), 32 2SAB (in), 33 2CLKAB (in), 34 TDI (in), 36 VCC (power), 37 TCK (in), 38 2CLKBA (in), 39 2SBA (in), 40 GND (power), 41 2DIR (in), 42 2B9 (io), 43 2B8 (io), 44 2B7 (io), 45 2B6 (io), 46 2B5 (io), 47 GND (power), 48 2B4 (io), 49 2B3 (io), 50 2B2 (io), 51 2B1 (io), 53 VCC (power), 54 1B9 (io), 55 1B8 (io), 56 1B7 (io), 57 GND (power), 58 1B6 (io), 59 1B5 (io), 60 1B4 (io), 61 1B3 (io), 62 1B2 (io), 63 1B1 (io), 64 GND (power), 65 1DIR (in), 66 1SBA (in), 67 1CLKBA (in), 68 TMS (in)

## SNJ54ABTH182652AHV
designator U?
Scan Test Device with 18-Bit Bus Transceiver and Register; Note: Pins 1, 18, 35 and 52 - No Connection and not drawn; Published: 8-Jun-2000; LatestRevisionDate: 13-Apr-2006; LatestRevisionNote: IPC-7351 Footprint Added.; DatasheetVersion: Jul-1996; PackageVersion: Oct-1996; PackageReference: HV068C; Publisher: Altium Limited; PackageDescription: 68-Pin Ceramic Quad Flat Pack 0.635 mm Pitch; ComponentLink1Description: Manufacturer Link; ComponentLink1URL: http://www.ti.com/
footprint HV068C_N (CQFP, 68-Leads, Body 12.5x12.5mm; Pitch 0.635mm, Gullwing Leadform, IPC Medium Density)
footprint HV068C_L (CQFP, 68-Leads, Body 12.5x12.5mm; Pitch 0.635mm, Gullwing Leadform, IPC High Density)
footprint HV068C_M (CQFP, 68-Leads, Body 12.5x12.5mm; Pitch 0.635mm, Gullwing Leadform, IPC Low Density)
3D model SNJ54ABTH182652A-HV068 (68-Pin Ceramic Quad Flat Pack 0.635 mm Pitch)
pins: 2 VCC (power), 3 TDO (hiz), 4 1CLKAB (in), 5 1SAB (in), 6 GND (power), 7 ~{1OEBA} (in), 8 1A1 (io), 9 1A2 (io), 10 1A3 (io), 11 1A4 (io), 12 1A5 (io), 13 GND (power), 14 1A6 (io), 15 1A7 (io), 16 1A8 (io), 17 1A9 (io), 19 VCC (power), 20 2A1 (io), 21 2A2 (io), 22 2A3 (io), 23 GND (power), 24 2A4 (io), 25 2A5 (io), 26 2A6 (io), 27 2A7 (io), 28 2A8 (io), 29 2A9 (io), 30 GND (power), 31 ~{2OEBA} (in), 32 2SAB (in), 33 2CLKAB (in), 34 TDI (in), 36 VCC (power), 37 TCK (in), 38 2CLKBA (in), 39 2SBA (in), 40 GND (power), 41 2OEAB (in), 42 2B9 (io), 43 2B8 (io), 44 2B7 (io), 45 2B6 (io), 46 2B5 (io), 47 GND (power), 48 2B4 (io), 49 2B3 (io), 50 2B2 (io), 51 2B1 (io), 53 VCC (power), 54 1B9 (io), 55 1B8 (io), 56 1B7 (io), 57 GND (power), 58 1B6 (io), 59 1B5 (io), 60 1B4 (io), 61 1B3 (io), 62 1B2 (io), 63 1B1 (io), 64 GND (power), 65 1OEAB (in), 66 1SBA (in), 67 1CLKBA (in), 68 TMS (in)

## SNJ54ACT8997FK
designator U?
Scan-Path Linker with 4-Bit Identification Bus Scan-Controlled IEEE Std 1149.1 (JTAG) Tap Concatenator; Published: 8-Jun-2000; LatestRevisionDate: 17-Jul-2002; LatestRevisionNote: Re-released for DXP Platform.; DatasheetVersion: Dec-1996; PackageVersion: 1998; PackageReference: FK028; Publisher: Altium Limited; PackageDescription: Leadless Chip Carrier; 28 Terminals; Body 11.4 x 11.4 mm; ComponentLink1Description: Manufacturer Link; ComponentLink1URL: http://www.ti.com/; ComponentLink2Description: Datasheet; ComponentLink2URL: http://www-s.ti.com/sc/ds/sn74act8997.pdf
footprint FK028 (Leadless Chip Carrier; 28 Terminals; Body 11.4 x 11.4 mm)
signal-integrity model SNJ54ACT8997FK
pins: 1 ID4 (in), 2 ID3 (in), 3 ID2 (in), 4 ID1 (in), 5 ~{TRST} (in), 6 MCI (in), 7 DCI (in), 8 DCO (hiz), 9 MCO (out), 10 DTDO1 (hiz), 11 DTDO2 (hiz), 12 DTDO3 (hiz), 13 DTDO4 (hiz), 14 GND (power), 15 DTMS1 (hiz), 16 DTMS2 (hiz), 17 DTMS3 (hiz), 18 DTMS4 (hiz), 19 DTCK (hiz), 20 TDO (hiz), 21 TMS (in), 22 TCK (in), 23 TDI (in), 24 DTDI4 (in), 25 DTDI3 (in), 26 DTDI2 (in), 27 DTDI1 (in), 28 VCC (power)

## SNJ54ACT8997JT
designator U?
Scan-Path Linker with 4-Bit Identification Bus Scan-Controlled IEEE Std 1149.1 (JTAG) Tap Concatenator; Published: 8-Jun-2000; LatestRevisionDate: 06-Jun-2005; LatestRevisionNote: Stylized 3D Model Added.; DatasheetVersion: Dec-1996; PackageVersion: Jan-1997; PackageReference: JT028; Publisher: Altium Limited; PackageDescription: DIP; 28 Leads; Row Spacing 7.62 mm; Pitch 2.54 mm; ComponentLink1Description: Manufacturer Link; ComponentLink1URL: http://www.ti.com/; ComponentLink2Description: Datasheet; ComponentLink2URL: http://www-s.ti.com/sc/ds/sn74act8997.pdf
footprint JT028 (DIP; 28 Leads; Row Spacing 7.62 mm; Pitch 2.54 mm)
3D model JT028 (DIP; 28 Leads; Row Spacing 7.62 mm; Pitch 2.54 mm)
signal-integrity model SNJ54ACT8997JT
pins: 1 DCO (hiz), 2 MCO (out), 3 DTDO1 (hiz), 4 DTDO2 (hiz), 5 DTDO3 (hiz), 6 DTDO4 (hiz), 7 GND (power), 8 DTMS1 (hiz), 9 DTMS2 (hiz), 10 DTMS3 (hiz), 11 DTMS4 (hiz), 12 DTCK (hiz), 13 TDO (hiz), 14 TMS (in), 15 TCK (in), 16 TDI (in), 17 DTDI4 (in), 18 DTDI3 (in), 19 DTDI2 (in), 20 DTDI1 (in), 21 VCC (power), 22 ID4 (in), 23 ID3 (in), 24 ID2 (in), 25 ID1 (in), 26 ~{TRST} (in), 27 MCI (in), 28 DCI (in)

## SNJ54ACT8999FK
designator U?
Scan-Path Selector with 8-Bit Bidirectional Data Bus Scan-Controlled IEEE STD 1149.1 (JTAG) TAP Multiplexer; Published: 8-Jun-2000; LatestRevisionDate: 17-Jul-2002; LatestRevisionNote: Re-released for DXP Platform.; DatasheetVersion: Dec-1996; PackageVersion: 1998; PackageReference: FK028C; Publisher: Altium Limited; PackageDescription: Leadless Chip Carrier; 28 Terminals; Body 11.4 x 11.4 mm; ComponentLink1Description: Manufacturer Link; ComponentLink1URL: http://www.ti.com/
footprint FK028C (Leadless Chip Carrier; 28 Terminals; Body 11.4 x 11.4 mm)
signal-integrity model SNJ54ACT8999FK
pins: 1 ID5 (io), 2 ID4 (io), 3 ID3 (io), 4 ID2 (io), 5 ID1 (io), 6 MCI (in), 7 DCI (in), 8 DTDI (in), 9 OTMS (in), 10 DCO (hiz), 11 MCO (out), 12 DTDO (hiz), 13 DTCK (hiz), 14 GND (power), 15 DTMS1 (hiz), 16 DTMS2 (hiz), 17 DTMS3 (hiz), 18 DTMS4 (hiz), 19 ~{DTRST} (out), 20 TDO (hiz), 21 TMS (in), 22 TCK (in), 23 TDI (in), 24 ~{TRST} (in), 25 ID8 (io), 26 ID7 (io), 27 ID6 (io), 28 VCC (power)

## SNJ54ACT8999JT
designator U?
Scan-Path Selector with 8-Bit Bidirectional Data Bus Scan-Controlled IEEE STD 1149.1 (JTAG) TAP Multiplexer; Published: 8-Jun-2000; LatestRevisionDate: 06-Jun-2005; LatestRevisionNote: Stylized 3D Model Added.; DatasheetVersion: Dec-1996; PackageVersion: Jan-1997; PackageReference: JT028C; Publisher: Altium Limited; PackageDescription: DIP; 28 Leads; Row Spacing 7.62 mm; Pitch 2.54 mm; ComponentLink1Description: Manufacturer Link; ComponentLink1URL: http://www.ti.com/
footprint JT028C (DIP; 28 Leads; Row Spacing 7.62 mm; Pitch 2.54 mm)
3D model JT028 (DIP; 28 Leads; Row Spacing 7.62 mm; Pitch 2.54 mm)
signal-integrity model SNJ54ACT8999JT
pins: 1 DTDI (in), 2 OTMS (in), 3 DCO (hiz), 4 MCO (out), 5 DTDO (hiz), 6 DTCK (hiz), 7 GND (power), 8 DTMS1 (hiz), 9 DTMS2 (hiz), 10 DTMS3 (hiz), 11 DTMS4 (hiz), 12 ~{DTRST} (out), 13 TDO (hiz), 14 TMS (in), 15 TCK (in), 16 TDI (in), 17 ~{TRST} (in), 18 ID8 (io), 19 ID7 (io), 20 ID6 (io), 21 VCC (power), 22 ID5 (io), 23 ID4 (io), 24 ID3 (io), 25 ID2 (io), 26 ID1 (io), 27 MCI (in), 28 DCI (in)

## SNJ54BCT8240AFK
designator U?
Scan Test Device with Octal Inverting Buffers; Note: Pins 1, 8, 15 and 22 - No connection and not drawn; Published: 8-Jun-2000; LatestRevisionDate: 17-Jul-2002; LatestRevisionNote: Re-released for DXP Platform.; DatasheetVersion: Dec-1996; PackageVersion: 1998; PackageReference: FK028; Publisher: Altium Limited; PackageDescription: Leadless Chip Carrier; 28 Terminals; Body 11.4 x 11.4 mm; ComponentLink1Description: Manufacturer Link; ComponentLink1URL: http://www.ti.com/; ComponentLink2Description: Datasheet; ComponentLink2URL: http://www-s.ti.com/sc/ds/sn74bct8240a.pdf
footprint FK028 (Leadless Chip Carrier; 28 Terminals; Body 11.4 x 11.4 mm)
signal-integrity model SNJ54BCT8240AFK
pins: 2 2A1 (in), 3 1A4 (in), 4 1A3 (in), 5 1A2 (in), 6 1A1 (in), 7 2~{OE} (in), 9 1~{OE} (in), 10 1Y1 (hiz), 11 1Y2 (hiz), 12 1Y3 (hiz), 13 1Y4 (hiz), 14 GND (power), 16 2Y1 (hiz), 17 2Y2 (hiz), 18 2Y3 (hiz), 19 2Y4 (hiz), 20 TDO (hiz), 21 TMS (in), 23 TCK (in), 24 TDI (in), 25 2A4 (in), 26 2A3 (in), 27 2A2 (in), 28 VCC (power)

## SNJ54BCT8240AJT
designator U?
Scan Test Device with Octal Inverting Buffers; Published: 8-Jun-2000; LatestRevisionDate: 06-Jun-2005; LatestRevisionNote: Stylized 3D Model Added.; DatasheetVersion: Dec-1996; PackageVersion: Jan-1997; PackageReference: JT024; Publisher: Altium Limited; PackageDescription: DIP; 24 Leads; Row Spacing 7.62 mm; Pitch 2.54 mm; Code_JEDEC: MS-001-AF; ComponentLink1Description: Manufacturer Link; ComponentLink1URL: http://www.ti.com/; ComponentLink2Description: Datasheet; ComponentLink2URL: http://www-s.ti.com/sc/ds/sn74bct8240a.pdf
footprint JT024 (DIP; 24 Leads; Row Spacing 7.62 mm; Pitch 2.54 mm)
3D model JT024 (DIP; 24 Leads; Row Spacing 7.62 mm; Pitch 2.54 mm)
signal-integrity model SNJ54BCT8240AJT
pins: 1 1~{OE} (in), 2 1Y1 (hiz), 3 1Y2 (hiz), 4 1Y3 (hiz), 5 1Y4 (hiz), 6 GND (power), 7 2Y1 (hiz), 8 2Y2 (hiz), 9 2Y3 (hiz), 10 2Y4 (hiz), 11 TDO (hiz), 12 TMS (in), 13 TCK (in), 14 TDI (in), 15 2A4 (in), 16 2A3 (in), 17 2A2 (in), 18 VCC (power), 19 2A1 (in), 20 1A4 (in), 21 1A3 (in), 22 1A2 (in), 23 1A1 (in), 24 2~{OE} (in)

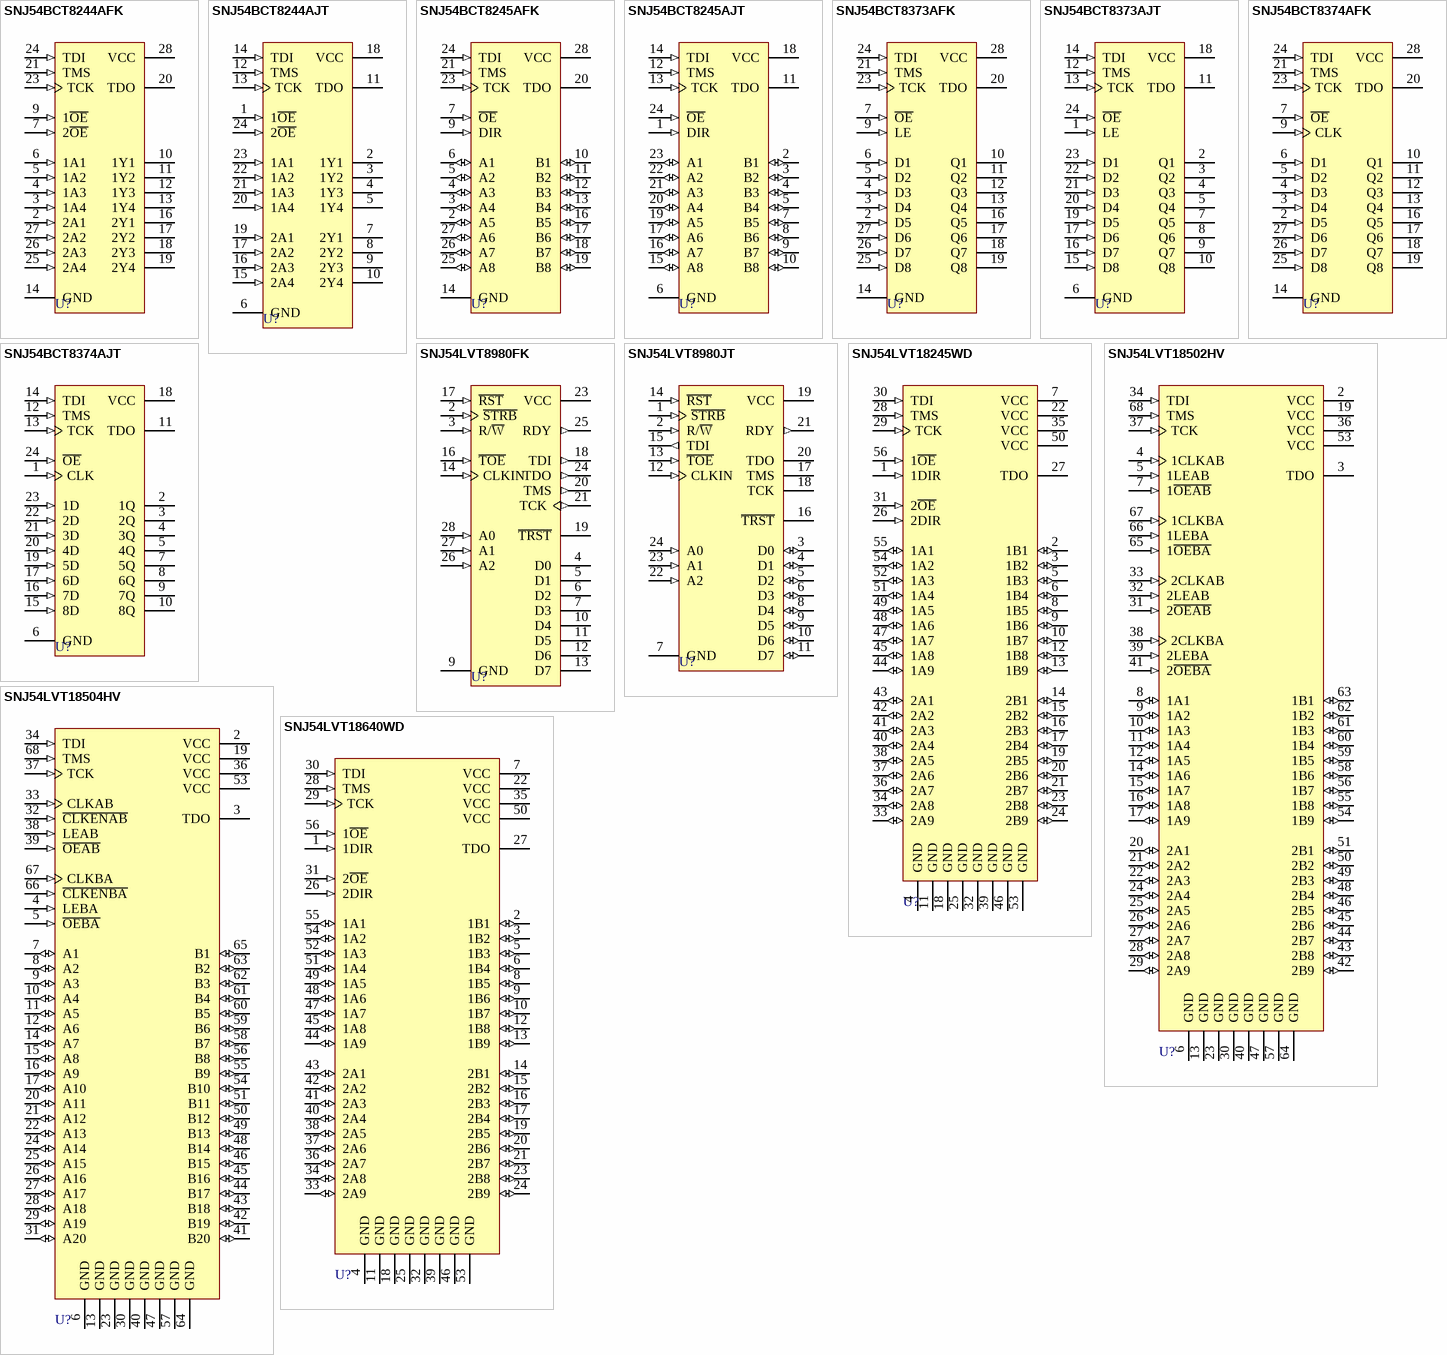
[diagram p9: symbols SNJ54BCT8244AFK to SNJ54LVT18640WD]

## SNJ54BCT8244AFK
designator U?
Scan Test Device with Octal Buffers; Note: Pin(s) 1,8,15,22 "No Connection" and not drawn.; Published: 8-Jun-2000; LatestRevisionDate: 17-Jul-2002; LatestRevisionNote: Re-released for DXP Platform.; DatasheetVersion: Jul-1996; PackageVersion: 1998; PackageReference: FK028; Publisher: Altium Limited; PackageDescription: Leadless Chip Carrier; 28 Terminals; Body 11.4 x 11.4 mm; ComponentLink1Description: Manufacturer Link; ComponentLink1URL: http://www.ti.com/; ComponentLink2Description: Datasheet; ComponentLink2URL: http://www-s.ti.com/sc/ds/sn74bct8244a.pdf
footprint FK028 (Leadless Chip Carrier; 28 Terminals; Body 11.4 x 11.4 mm)
signal-integrity model SNJ54BCT8244AFK
pins: 2 2A1 (in), 3 1A4 (in), 4 1A3 (in), 5 1A2 (in), 6 1A1 (in), 7 2~{OE} (in), 9 1~{OE} (in), 10 1Y1 (hiz), 11 1Y2 (hiz), 12 1Y3 (hiz), 13 1Y4 (hiz), 14 GND (power), 16 2Y1 (hiz), 17 2Y2 (hiz), 18 2Y3 (hiz), 19 2Y4 (hiz), 20 TDO (hiz), 21 TMS (in), 23 TCK (in), 24 TDI (in), 25 2A4 (in), 26 2A3 (in), 27 2A2 (in), 28 VCC (power)

## SNJ54BCT8244AJT
designator U?
Scan Test Device with Octal Buffers; Published: 8-Jun-2000; LatestRevisionDate: 06-Jun-2005; LatestRevisionNote: Stylized 3D Model Added.; DatasheetVersion: Jul-1996; PackageVersion: Jan-1997; PackageReference: JT024; Publisher: Altium Limited; PackageDescription: DIP; 24 Leads; Row Spacing 7.62 mm; Pitch 2.54 mm; Code_JEDEC: MS-001-AF; ComponentLink1Description: Manufacturer Link; ComponentLink1URL: http://www.ti.com/; ComponentLink2Description: Datasheet; ComponentLink2URL: http://www-s.ti.com/sc/ds/sn74bct8244a.pdf
footprint JT024 (DIP; 24 Leads; Row Spacing 7.62 mm; Pitch 2.54 mm)
3D model JT024 (DIP; 24 Leads; Row Spacing 7.62 mm; Pitch 2.54 mm)
signal-integrity model SNJ54BCT8244AJT
pins: 1 1~{OE} (in), 2 1Y1 (hiz), 3 1Y2 (hiz), 4 1Y3 (hiz), 5 1Y4 (hiz), 6 GND (power), 7 2Y1 (hiz), 8 2Y2 (hiz), 9 2Y3 (hiz), 10 2Y4 (hiz), 11 TDO (hiz), 12 TMS (in), 13 TCK (in), 14 TDI (in), 15 2A4 (in), 16 2A3 (in), 17 2A2 (in), 18 VCC (power), 19 2A1 (in), 20 1A4 (in), 21 1A3 (in), 22 1A2 (in), 23 1A1 (in), 24 2~{OE} (in)

## SNJ54BCT8245AFK
designator U?
Scan Test Device with Octal Bus Transceivers; Note: Pin(s) 1,8,15,22 "No Connection" and not drawn.; Published: 8-Jun-2000; LatestRevisionDate: 17-Jul-2002; LatestRevisionNote: Re-released for DXP Platform.; DatasheetVersion: Jul-1996; PackageVersion: 1998; PackageReference: FK028; Publisher: Altium Limited; PackageDescription: Leadless Chip Carrier; 28 Terminals; Body 11.4 x 11.4 mm; ComponentLink1Description: Manufacturer Link; ComponentLink1URL: http://www.ti.com/; ComponentLink2Description: Datasheet; ComponentLink2URL: http://www-s.ti.com/sc/ds/sn74bct8245a.pdf
footprint FK028 (Leadless Chip Carrier; 28 Terminals; Body 11.4 x 11.4 mm)
signal-integrity model SNJ54BCT8245AFK
pins: 2 A5 (io), 3 A4 (io), 4 A3 (io), 5 A2 (io), 6 A1 (io), 7 ~{OE} (in), 9 DIR (in), 10 B1 (io), 11 B2 (io), 12 B3 (io), 13 B4 (io), 14 GND (power), 16 B5 (io), 17 B6 (io), 18 B7 (io), 19 B8 (io), 20 TDO (hiz), 21 TMS (in), 23 TCK (in), 24 TDI (in), 25 A8 (io), 26 A7 (io), 27 A6 (io), 28 VCC (power)

## SNJ54BCT8245AJT
designator U?
Scan Test Device with Octal Bus Transceivers; Published: 8-Jun-2000; LatestRevisionDate: 06-Jun-2005; LatestRevisionNote: Stylized 3D Model Added.; DatasheetVersion: Jul-1996; PackageVersion: Jan-1997; PackageReference: JT024; Publisher: Altium Limited; PackageDescription: DIP; 24 Leads; Row Spacing 7.62 mm; Pitch 2.54 mm; Code_JEDEC: MS-001-AF; ComponentLink1Description: Manufacturer Link; ComponentLink1URL: http://www.ti.com/; ComponentLink2Description: Datasheet; ComponentLink2URL: http://www-s.ti.com/sc/ds/sn74bct8245a.pdf
footprint JT024 (DIP; 24 Leads; Row Spacing 7.62 mm; Pitch 2.54 mm)
3D model JT024 (DIP; 24 Leads; Row Spacing 7.62 mm; Pitch 2.54 mm)
signal-integrity model SNJ54BCT8245AJT
pins: 1 DIR (in), 2 B1 (io), 3 B2 (io), 4 B3 (io), 5 B4 (io), 6 GND (power), 7 B5 (io), 8 B6 (io), 9 B7 (io), 10 B8 (io), 11 TDO (hiz), 12 TMS (in), 13 TCK (in), 14 TDI (in), 15 A8 (io), 16 A7 (io), 17 A6 (io), 18 VCC (power), 19 A5 (io), 20 A4 (io), 21 A3 (io), 22 A2 (io), 23 A1 (io), 24 ~{OE} (in)

## SNJ54BCT8373AFK
designator U?
Scan Test Device with Octal D-Type Latches; Note: Pin(s) 1,8,15,22 "No Connection" and not drawn.; Published: 8-Jun-2000; LatestRevisionDate: 17-Jul-2002; LatestRevisionNote: Re-released for DXP Platform.; DatasheetVersion: Jul-1996; PackageVersion: 1998; PackageReference: FK028; Publisher: Altium Limited; PackageDescription: Leadless Chip Carrier; 28 Terminals; Body 11.4 x 11.4 mm; ComponentLink1Description: Manufacturer Link; ComponentLink1URL: http://www.ti.com/; ComponentLink2Description: Datasheet; ComponentLink2URL: http://www-s.ti.com/sc/ds/sn74bct8373a.pdf
footprint FK028 (Leadless Chip Carrier; 28 Terminals; Body 11.4 x 11.4 mm)
signal-integrity model SNJ54BCT8373AFK
pins: 2 D5 (in), 3 D4 (in), 4 D3 (in), 5 D2 (in), 6 D1 (in), 7 ~{OE} (in), 9 LE (in), 10 Q1 (hiz), 11 Q2 (hiz), 12 Q3 (hiz), 13 Q4 (hiz), 14 GND (power), 16 Q5 (hiz), 17 Q6 (hiz), 18 Q7 (hiz), 19 Q8 (hiz), 20 TDO (hiz), 21 TMS (in), 23 TCK (in), 24 TDI (in), 25 D8 (in), 26 D7 (in), 27 D6 (in), 28 VCC (power)

## SNJ54BCT8373AJT
designator U?
Scan Test Device with Octal D-Type Latches; Published: 8-Jun-2000; LatestRevisionDate: 06-Jun-2005; LatestRevisionNote: Stylized 3D Model Added.; DatasheetVersion: Jul-1996; PackageVersion: Jan-1997; PackageReference: JT024; Publisher: Altium Limited; PackageDescription: DIP; 24 Leads; Row Spacing 7.62 mm; Pitch 2.54 mm; Code_JEDEC: MS-001-AF; ComponentLink1Description: Manufacturer Link; ComponentLink1URL: http://www.ti.com/; ComponentLink2Description: Datasheet; ComponentLink2URL: http://www-s.ti.com/sc/ds/sn74bct8373a.pdf
footprint JT024 (DIP; 24 Leads; Row Spacing 7.62 mm; Pitch 2.54 mm)
3D model JT024 (DIP; 24 Leads; Row Spacing 7.62 mm; Pitch 2.54 mm)
signal-integrity model SNJ54BCT8373AJT
pins: 1 LE (in), 2 Q1 (hiz), 3 Q2 (hiz), 4 Q3 (hiz), 5 Q4 (hiz), 6 GND (power), 7 Q5 (hiz), 8 Q6 (hiz), 9 Q7 (hiz), 10 Q8 (hiz), 11 TDO (hiz), 12 TMS (in), 13 TCK (in), 14 TDI (in), 15 D8 (in), 16 D7 (in), 17 D6 (in), 18 VCC (power), 19 D5 (in), 20 D4 (in), 21 D3 (in), 22 D2 (in), 23 D1 (in), 24 ~{OE} (in)

## SNJ54BCT8374AFK
designator U?
Scan Test Device with Octal D-Type Edge-Triggered Flip-Flops; Note: Pin(s) 1,8,15,22 "No Connection" and not drawn.; Published: 8-Jun-2000; LatestRevisionDate: 17-Jul-2002; LatestRevisionNote: Re-released for DXP Platform.; DatasheetVersion: Jul-1996; PackageVersion: 1998; PackageReference: FK028; Publisher: Altium Limited; PackageDescription: Leadless Chip Carrier; 28 Terminals; Body 11.4 x 11.4 mm; ComponentLink1Description: Manufacturer Link; ComponentLink1URL: http://www.ti.com/; ComponentLink2Description: Datasheet; ComponentLink2URL: http://www-s.ti.com/sc/ds/sn74bct8374a.pdf
footprint FK028 (Leadless Chip Carrier; 28 Terminals; Body 11.4 x 11.4 mm)
signal-integrity model SNJ54BCT8374AFK
pins: 2 D5 (in), 3 D4 (in), 4 D3 (in), 5 D2 (in), 6 D1 (in), 7 ~{OE} (in), 9 CLK (in), 10 Q1 (hiz), 11 Q2 (hiz), 12 Q3 (hiz), 13 Q4 (hiz), 14 GND (power), 16 Q5 (hiz), 17 Q6 (hiz), 18 Q7 (hiz), 19 Q8 (hiz), 20 TDO (hiz), 21 TMS (in), 23 TCK (in), 24 TDI (in), 25 D8 (in), 26 D7 (in), 27 D6 (in), 28 VCC (power)

## SNJ54BCT8374AJT
designator U?
Scan Test Device with Octal D-Type Edge-Triggered Flip-Flops; Published: 8-Jun-2000; LatestRevisionDate: 06-Jun-2005; LatestRevisionNote: Stylized 3D Model Added.; DatasheetVersion: Jul-1996; PackageVersion: Jan-1997; PackageReference: JT024; Publisher: Altium Limited; PackageDescription: DIP; 24 Leads; Row Spacing 7.62 mm; Pitch 2.54 mm; Code_JEDEC: MS-001-AF; ComponentLink1Description: Manufacturer Link; ComponentLink1URL: http://www.ti.com/; ComponentLink2Description: Datasheet; ComponentLink2URL: http://www-s.ti.com/sc/ds/sn74bct8374a.pdf
footprint JT024 (DIP; 24 Leads; Row Spacing 7.62 mm; Pitch 2.54 mm)
3D model JT024 (DIP; 24 Leads; Row Spacing 7.62 mm; Pitch 2.54 mm)
signal-integrity model SNJ54BCT8374AJT
pins: 1 CLK (in), 2 1Q (hiz), 3 2Q (hiz), 4 3Q (hiz), 5 4Q (hiz), 6 GND (power), 7 5Q (hiz), 8 6Q (hiz), 9 7Q (hiz), 10 8Q (hiz), 11 TDO (hiz), 12 TMS (in), 13 TCK (in), 14 TDI (in), 15 8D (in), 16 7D (in), 17 6D (in), 18 VCC (power), 19 5D (in), 20 4D (in), 21 3D (in), 22 2D (in), 23 1D (in), 24 ~{OE} (in)

## SNJ54LVT8980FK
designator U?
Embedded Test-Bus Controller IEEE STD 1149.1 (JTAG) TAP Master with 8-Bit Generic Host Interface; Note: Pins 1, 8, 15 and 22 - No connection and not drawn; Published: 8-Jun-2000; LatestRevisionDate: 17-Jul-2002; LatestRevisionNote: Re-released for DXP Platform.; DatasheetVersion: Aug-1997; PackageVersion: 1998; PackageReference: FK028C; Publisher: Altium Limited; PackageDescription: Leadless Chip Carrier; 28 Terminals; Body 11.4 x 11.4 mm; ComponentLink1Description: Manufacturer Link; ComponentLink1URL: http://www.ti.com/
footprint FK028C (Leadless Chip Carrier; 28 Terminals; Body 11.4 x 11.4 mm)
signal-integrity model SNJ54LVT8980FK
pins: 2 ~{STRB} (in), 3 R/~{W} (in), 4 D0 (hiz), 5 D1 (hiz), 6 D2 (hiz), 7 D3 (hiz), 9 GND (power), 10 D4 (hiz), 11 D5 (hiz), 12 D6 (hiz), 13 D7 (hiz), 14 CLKIN (in), 16 ~{TOE} (in), 17 ~{RST} (in), 18 TDI (out), 19 ~{TRST} (power), 20 TMS (out), 21 TCK (out), 23 VCC (power), 24 TDO (out), 25 RDY (out), 26 A2 (in), 27 A1 (in), 28 A0 (in)

## SNJ54LVT8980JT
designator U?
Embedded Test-Bus Controller IEEE STD 1149.1 (JTAG) TAP Master with 8-Bit Generic Host Interface; Published: 8-Jun-2000; LatestRevisionDate: 06-Jun-2005; LatestRevisionNote: Stylized 3D Model Added.; DatasheetVersion: Aug-1997; PackageVersion: Jan-1997; PackageReference: JT024C; Publisher: Altium Limited; PackageDescription: DIP; 24 Leads; Row Spacing 7.62 mm; Pitch 2.54 mm; Code_JEDEC: MS-001-AF; ComponentLink1Description: Manufacturer Link; ComponentLink1URL: http://www.ti.com/
footprint JT024C (DIP; 24 Leads; Row Spacing 7.62 mm; Pitch 2.54 mm)
3D model JT024 (DIP; 24 Leads; Row Spacing 7.62 mm; Pitch 2.54 mm)
signal-integrity model SNJ54LVT8980JT
pins: 1 ~{STRB} (in), 2 R/~{W} (in), 3 D0 (io), 4 D1 (io), 5 D2 (io), 6 D3 (io), 7 GND (power), 8 D4 (io), 9 D5 (io), 10 D6 (io), 11 D7 (io), 12 CLKIN (in), 13 ~{TOE} (in), 14 ~{RST} (in), 15 TDI (out), 16 ~{TRST} (power), 17 TMS (hiz), 18 TCK (hiz), 19 VCC (power), 20 TDO (hiz), 21 RDY (out), 22 A2 (in), 23 A1 (in), 24 A0 (in)

## SNJ54LVT18245WD
designator U?
3.3-V ABT Scan Test Device with 18-Bit Bus Transceiver; Published: 8-Jun-2000; LatestRevisionDate: 06-Jun-2005; LatestRevisionNote: Stylized 3D Model Added.; DatasheetVersion: Aug-1994; PackageVersion: Jan-1998; PackageReference: WD056; Publisher: Altium Limited; PackageDescription: DFP; 56 Leads; Body 18.8 x 9.9 mm (LxW max); Pitch 0.635 mm; Code_JEDEC: MO-146-AB; ComponentLink1Description: Manufacturer Link; ComponentLink1URL: http://www.ti.com/
footprint WD056 (DFP; 56 Leads; Body 18.8 x 9.9 mm (LxW max); Pitch 0.635 mm)
3D model WD056 (DFP; 56 Leads; Body 18.8 x 9.9 mm (LxW max); Pitch 0.635 mm)
signal-integrity model SNJ54LVT18245WD
pins: 1 1DIR (in), 2 1B1 (io), 3 1B2 (io), 4 GND (power), 5 1B3 (io), 6 1B4 (io), 7 VCC (power), 8 1B5 (io), 9 1B6 (io), 10 1B7 (io), 11 GND (power), 12 1B8 (io), 13 1B9 (io), 14 2B1 (io), 15 2B2 (io), 16 2B3 (io), 17 2B4 (io), 18 GND (power), 19 2B5 (io), 20 2B6 (io), 21 2B7 (io), 22 VCC (power), 23 2B8 (io), 24 2B9 (io), 25 GND (power), 26 2DIR (in), 27 TDO (hiz), 28 TMS (in), 29 TCK (in), 30 TDI (in), 31 2~{OE} (in), 32 GND (power), 33 2A9 (io), 34 2A8 (io), 35 VCC (power), 36 2A7 (io), 37 2A6 (io), 38 2A5 (io), 39 GND (power), 40 2A4 (io), 41 2A3 (io), 42 2A2 (io), 43 2A1 (io), 44 1A9 (io), 45 1A8 (io), 46 GND (power), 47 1A7 (io), 48 1A6 (io), 49 1A5 (io), 50 VCC (power), 51 1A4 (io), 52 1A3 (io), 53 GND (power), 54 1A2 (io), 55 1A1 (io), 56 1~{OE} (in)

## SNJ54LVT18502HV
designator U?
3.3V ABT Scan Test Device with 18-Bit Universal Bus Transceivers; Note: Pins 1, 18, 35 and 52 - No Connection and not drawn; Published: 8-Jun-2000; LatestRevisionDate: 13-Apr-2006; LatestRevisionNote: IPC-7351 Footprint Added.; DatasheetVersion: Jul-1996; PackageVersion: Oct-1996; PackageReference: HV068; Publisher: Altium Limited; PackageDescription: 68-Pin Ceramic Quad Flat Pack 0.635 mm Pitch; ComponentLink1Description: Manufacturer Link; ComponentLink1URL: http://www.ti.com/
footprint HV068_N (CQFP, 68-Leads, Body 12.5x12.5mm; Pitch 0.635mm, Gullwing Leadform, IPC Medium Density)
footprint HV068_L (CQFP, 68-Leads, Body 12.5x12.5mm; Pitch 0.635mm, Gullwing Leadform, IPC High Density)
footprint HV068_M (CQFP, 68-Leads, Body 12.5x12.5mm; Pitch 0.635mm, Gullwing Leadform, IPC Low Density)
3D model SNJ54LVT18502-HV068 (68-Pin Ceramic Quad Flat Pack 0.635 mm Pitch)
signal-integrity model SNJ54LVT18502HV
pins: 2 VCC (power), 3 TDO (hiz), 4 1CLKAB (in), 5 1LEAB (in), 6 GND (power), 7 1~{OEAB} (in), 8 1A1 (io), 9 1A2 (io), 10 1A3 (io), 11 1A4 (io), 12 1A5 (io), 13 GND (power), 14 1A6 (io), 15 1A7 (io), 16 1A8 (io), 17 1A9 (io), 19 VCC (power), 20 2A1 (io), 21 2A2 (io), 22 2A3 (io), 23 GND (power), 24 2A4 (io), 25 2A5 (io), 26 2A6 (io), 27 2A7 (io), 28 2A8 (io), 29 2A9 (io), 30 GND (power), 31 2~{OEAB} (in), 32 2LEAB (in), 33 2CLKAB (in), 34 TDI (in), 36 VCC (power), 37 TCK (in), 38 2CLKBA (in), 39 2LEBA (in), 40 GND (power), 41 2~{OEBA} (in), 42 2B9 (io), 43 2B8 (io), 44 2B7 (io), 45 2B6 (io), 46 2B5 (io), 47 GND (power), 48 2B4 (io), 49 2B3 (io), 50 2B2 (io), 51 2B1 (io), 53 VCC (power), 54 1B9 (io), 55 1B8 (io), 56 1B7 (io), 57 GND (power), 58 1B6 (io), 59 1B5 (io), 60 1B4 (io), 61 1B3 (io), 62 1B2 (io), 63 1B1 (io), 64 GND (power), 65 1~{OEBA} (in), 66 1LEBA (in), 67 1CLKBA (in), 68 TMS (in)

## SNJ54LVT18504HV
designator U?
3.3-V ABT Scan Test Device with 20-Bit Universal Bus Transceiver; Note: Pins 1, 18, 35 and 52 - No Connection and not drawn; Published: 8-Jun-2000; LatestRevisionDate: 13-Apr-2006; LatestRevisionNote: IPC-7351 Footprint Added.; DatasheetVersion: Jul-1994; PackageVersion: Oct-1996; PackageReference: HV068C; Publisher: Altium Limited; PackageDescription: 68-Pin Ceramic Quad Flat Pack 0.635 mm Pitch; ComponentLink1Description: Manufacturer Link; ComponentLink1URL: http://www.ti.com/
footprint HV068C_N (CQFP, 68-Leads, Body 12.5x12.5mm; Pitch 0.635mm, Gullwing Leadform, IPC Medium Density)
footprint HV068C_L (CQFP, 68-Leads, Body 12.5x12.5mm; Pitch 0.635mm, Gullwing Leadform, IPC High Density)
footprint HV068C_M (CQFP, 68-Leads, Body 12.5x12.5mm; Pitch 0.635mm, Gullwing Leadform, IPC Low Density)
3D model SNJ54LVT18504-HV068 (68-Pin Ceramic Quad Flat Pack 0.635 mm Pitch)
signal-integrity model SNJ54LVT18504HV
pins: 2 VCC (power), 3 TDO (hiz), 4 LEBA (in), 5 ~{OEBA} (in), 6 GND (power), 7 A1 (io), 8 A2 (io), 9 A3 (io), 10 A4 (io), 11 A5 (io), 12 A6 (io), 13 GND (power), 14 A7 (io), 15 A8 (io), 16 A9 (io), 17 A10 (io), 19 VCC (power), 20 A11 (io), 21 A12 (io), 22 A13 (io), 23 GND (power), 24 A14 (io), 25 A15 (io), 26 A16 (io), 27 A17 (io), 28 A18 (io), 29 A19 (io), 30 GND (power), 31 A20 (io), 32 ~{CLKENAB} (in), 33 CLKAB (in), 34 TDI (in), 36 VCC (power), 37 TCK (in), 38 LEAB (in), 39 ~{OEAB} (in), 40 GND (power), 41 B20 (io), 42 B19 (io), 43 B18 (io), 44 B17 (io), 45 B16 (io), 46 B15 (io), 47 GND (power), 48 B14 (io), 49 B13 (io), 50 B12 (io), 51 B11 (io), 53 VCC (power), 54 B10 (io), 55 B9 (io), 56 B8 (io), 57 GND (power), 58 B7 (io), 59 B6 (io), 60 B5 (io), 61 B4 (io), 62 B3 (io), 63 B2 (io), 64 GND (power), 65 B1 (io), 66 ~{CLKENBA} (in), 67 CLKBA (in), 68 TMS (in)